# EAGLE library part ATMEGA88-M28 (library atmega88)
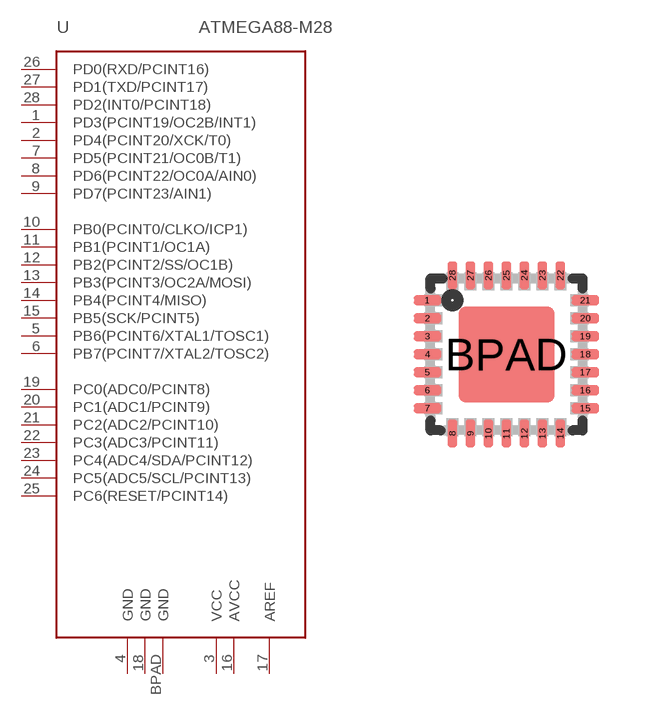
[diagram p2: symbol with the pads of MLF28; footprint MLF28]

Designator prefix -

## ATMEGA88-M28  [MLF28]
1  PD3(PCINT19/OC2B/INT1)
2  PD4(PCINT20/XCK/T0)
3  VCC  pwr
4  GND  pwr
5  PB6(PCINT6/XTAL1/TOSC1)
6  PB7(PCINT7/XTAL2/TOSC2)
7  PD5(PCINT21/OC0B/T1)
8  PD6(PCINT22/OC0A/AIN0)
9  PD7(PCINT23/AIN1)
10  PB0(PCINT0/CLKO/ICP1)
11  PB1(PCINT1/OC1A)
12  PB2(PCINT2/SS/OC1B)
13  PB3(PCINT3/OC2A/MOSI)
14  PB4(PCINT4/MISO)
15  PB5(SCK/PCINT5)
16  AVCC  pwr
17  AREF  pas
18  GND  pwr
19  PC0(ADC0/PCINT8)
20  PC1(ADC1/PCINT9)
21  PC2(ADC2/PCINT10)
22  PC3(ADC3/PCINT11)
23  PC4(ADC4/SDA/PCINT12)
24  PC5(ADC5/SCL/PCINT13)
25  PC6(RESET/PCINT14)
26  PD0(RXD/PCINT16)
27  PD1(TXD/PCINT17)
28  PD2(INT0/PCINT18)
BPAD  GND  pwr

## Footprint MLF28 (pad centres in mm)
smd 0.686 x 0.241: 1 -1.975,1.35; 2 -1.975,0.9; 3 -1.975,0.45; 4 -1.975,0; 5 -1.975,-0.45; 6 -1.975,-0.9; 7 -1.975,-1.35; 15 1.975,-1.35; 16 1.975,-0.9; 17 1.975,-0.45; 18 1.975,0; 19 1.975,0.45; 20 1.975,0.9; 21 1.975,1.35
smd 0.241 x 0.686: 8 -1.35,-1.975; 9 -0.9,-1.975; 10 -0.45,-1.975; 11 0,-1.975; 12 0.45,-1.975; 13 0.9,-1.975; 14 1.35,-1.975; 22 1.35,1.975; 23 0.9,1.975; 24 0.45,1.975; 25 0,1.975; 26 -0.45,1.975; 27 -0.9,1.975; 28 -1.35,1.975
smd 2.4 x 2.4: BPAD 0,0